# Altium footprint library DLW21HN900SQ2L.PcbLib: 3 footprints
Each footprint in its own frame and in the unit in brackets; x right, y up, seen from the top. Pads: shape width x height; smd on the part's side, far side on the other; paste and mask are expansions set on the pad; w line width, h text height; cw(c..) or ccw(c..) is an arc to the next point about the centre after c.
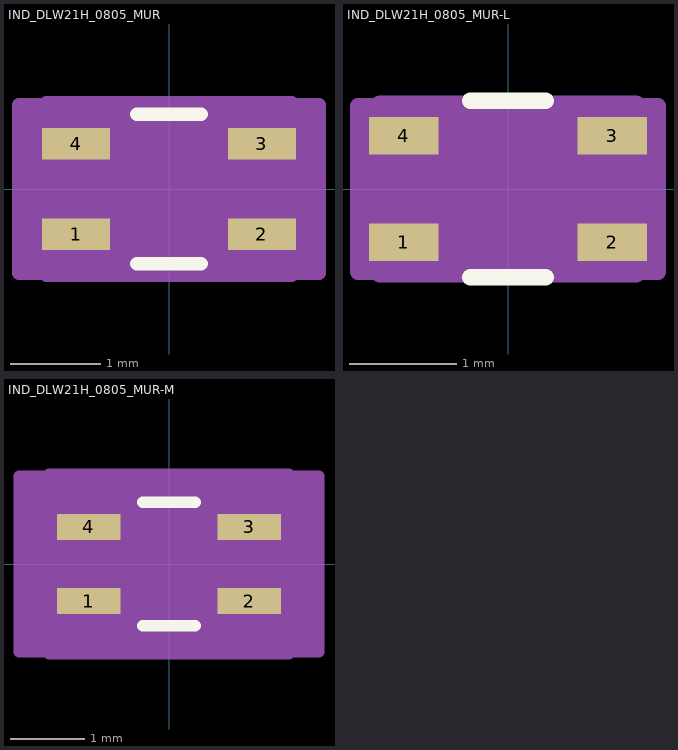
[diagram p0: the footprints below, top view; thin cyan lines are the x and y axes]

## IND_DLW21H_0805_MUR [mm]
pads (4):
  rect 0.755x0.349 smd paste+0 mask+0: 1(-1.027,-0.5) 2(1.027,-0.5) 3(1.027,0.5) 4(-1.027,0.5)
Top Overlay:
  lines w0.152: -0.354,-0.827 0.354,-0.827 ; -0.354,0.827 0.354,0.827
Mechanical 13:
  lines w0.025: -1.1,-0.7 1.1,-0.7 1.1,0.7 -1.1,0.7 -1.1,-0.7
Mechanical 15:
  region: -1.354,-0.929 -1.659,-0.929 -1.659,0.929 -1.354,0.929 -1.354,0.954 1.354,0.954 1.354,0.929 1.659,0.929 1.659,-0.929 1.354,-0.929 1.354,-0.954 -1.354,-0.954
  lines w0.152: -1.659,-0.929 -1.659,0.929 -1.354,0.929 -1.354,0.954 1.354,0.954 1.354,0.929 1.659,0.929 1.659,-0.929 1.354,-0.929 1.354,-0.954 -1.354,-0.954 -1.354,-0.929 -1.659,-0.929
3D body "IND_DLW21H_0805_MUR.step": height 1, standoff 0, extent -1.1,-0.7 1.1,0.7

## IND_DLW21H_0805_MUR-L [mm]
pads (4):
  rect 0.653x0.349 smd paste+0 mask+0: 1(-0.977,-0.5) 2(0.977,-0.5) 3(0.977,0.5) 4(-0.977,0.5)
Top Overlay:
  lines w0.152: -0.354,-0.827 0.354,-0.827 ; -0.354,0.827 0.354,0.827
Mechanical 13:
  lines w0.025: -1.1,-0.7 1.1,-0.7 1.1,0.7 -1.1,0.7 -1.1,-0.7
Mechanical 15:
  region: -1.202,-0.776 -1.405,-0.776 -1.405,0.776 -1.202,0.776 -1.202,0.802 1.202,0.802 1.202,0.776 1.405,0.776 1.405,-0.776 1.202,-0.776 1.202,-0.802 -1.202,-0.802
  lines w0.152: -1.405,-0.776 -1.405,0.776 -1.202,0.776 -1.202,0.802 1.202,0.802 1.202,0.776 1.405,0.776 1.405,-0.776 1.202,-0.776 1.202,-0.802 -1.202,-0.802 -1.202,-0.776 -1.405,-0.776
3D body "IND_DLW21H_0805_MUR.step": height 1, standoff 0, extent -1.1,-0.7 1.1,0.7

## IND_DLW21H_0805_MUR-M [mm]
pads (4):
  rect 0.856x0.349 smd paste+0 mask+0: 1(-1.078,-0.5) 2(1.078,-0.5) 3(1.078,0.5) 4(-1.078,0.5)
Top Overlay:
  lines w0.152: -0.354,-0.827 0.354,-0.827 ; -0.354,0.827 0.354,0.827
Mechanical 13:
  lines w0.025: -1.1,-0.7 1.1,-0.7 1.1,0.7 -1.1,0.7 -1.1,-0.7
Mechanical 15:
  region: -1.608,-1.183 -2.014,-1.183 -2.014,1.183 -1.608,1.183 -1.608,1.208 1.608,1.208 1.608,1.183 2.014,1.183 2.014,-1.183 1.608,-1.183 1.608,-1.208 -1.608,-1.208
  lines w0.152: -2.014,-1.183 -2.014,1.183 -1.608,1.183 -1.608,1.208 1.608,1.208 1.608,1.183 2.014,1.183 2.014,-1.183 1.608,-1.183 1.608,-1.208 -1.608,-1.208 -1.608,-1.183 -2.014,-1.183
3D body "IND_DLW21H_0805_MUR.step": height 1, standoff 0, extent -1.1,-0.7 1.1,0.7